# Altium schematic symbol library Daedalus Components Lib Sch.SchLib: 57 symbols
Pins are listed as number, name and electrical type; pins without a type are passive.

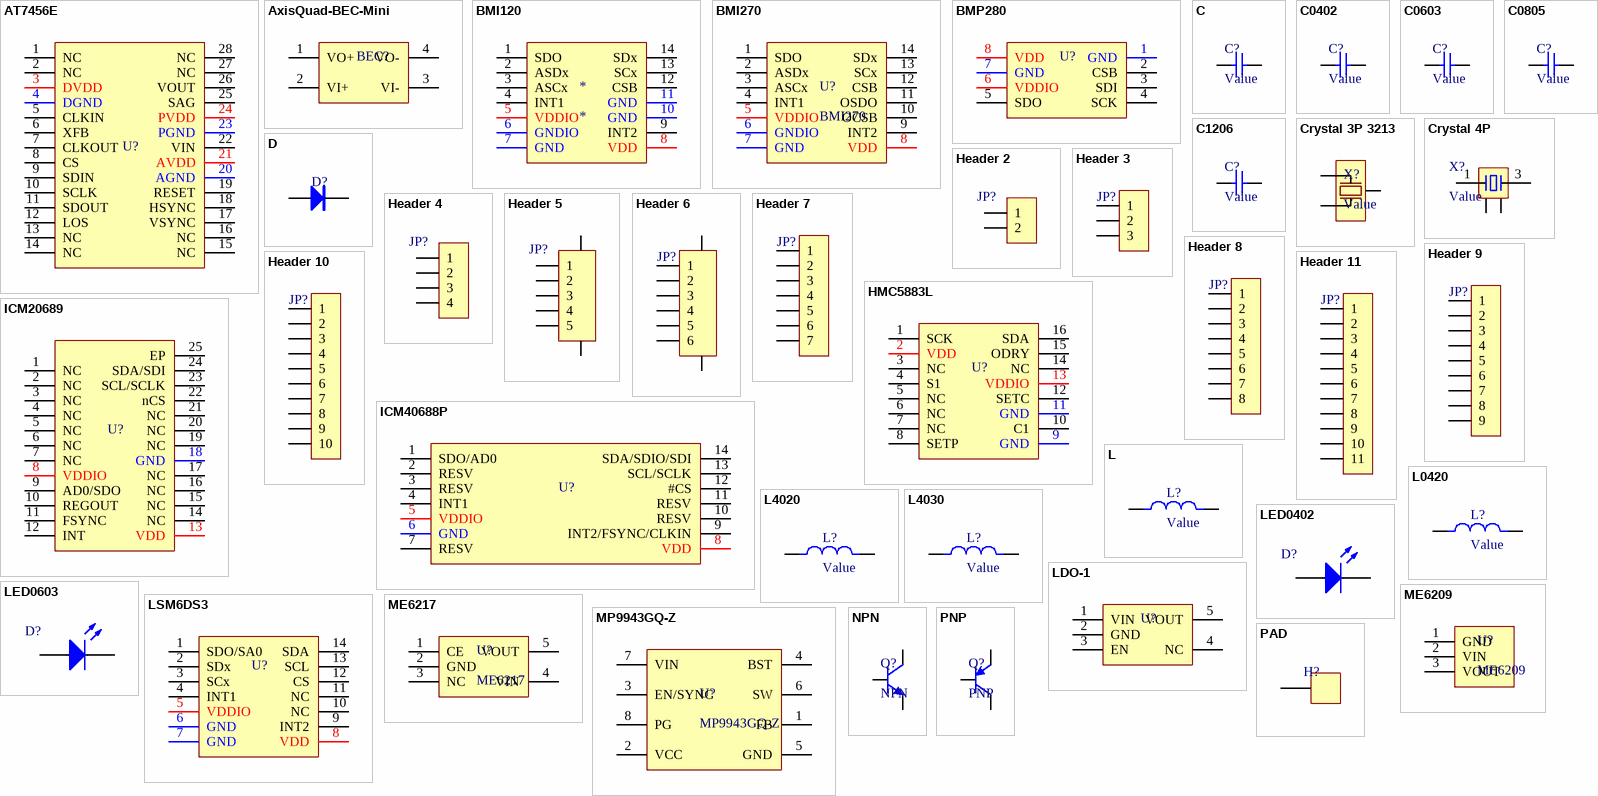
[diagram p0: symbols AT7456E to PNP]

## AT7456E
designator U?
中科微电子 Character Overlay Chip
footprint TSSOP28 (9.8*6.4*1mm)
pins: 1 NC, 2 NC, 3 DVDD, 4 DGND, 5 CLKIN, 6 XFB, 7 CLKOUT, 8 CS, 9 SDIN, 10 SCLK, 11 SDOUT, 12 LOS, 13 NC, 14 NC, 15 NC, 16 NC, 17 VSYNC, 18 HSYNC, 19 RESET, 20 AGND, 21 AVDD, 22 VIN, 23 PGND, 24 PVDD, 25 SAG, 26 VOUT, 27 NC, 28 NC

## AxisQuad-BEC-Mini
designator BEC?
V2 Based on TPS54302, V3 Based on SCT2331
footprint AxisQuad BEC Mini v2 (AxisQuad BEC Based on TPS54302)
footprint AxisQuad BEC Mini v3 (AxisQuad BEC Based on SCT2331)
pins: 1 VO+, 2 VI+, 3 VI-, 4 VO-

## BMI120
designator *
Small, low power inertial measurement unit
footprint LGA-14
footprint LGA-14
pins: 1 SDO, 2 ASDx, 3 ASCx, 4 INT1, 5 VDDIO, 6 GNDIO, 7 GND, 8 VDD, 9 INT2, 10 GND, 11 GND, 12 CSB, 13 SCx, 14 SDx

## BMI270
designator U?
6-axis, smart, low power Inertial Measurement Unit for high-performance applications
footprint LGA-14
pins: 1 SDO, 2 ASDx, 3 ASCx, 4 INT1, 5 VDDIO, 6 GNDIO, 7 GND, 8 VDD, 9 INT2, 10 OCSB, 11 OSDO, 12 CSB, 13 SCx, 14 SDx

## BMP280
designator U?
BOSCH Barometer
footprint LGA-8-BMP280
pins: 1 GND, 2 CSB, 3 SDI, 4 SCK, 5 SDO, 6 VDDIO, 7 GND, 8 VDD

## C
designator C?, comment Value
footprint C1206_NS (贴片MLCC电容-无丝印)
footprint C0402_NS (贴片MLCC电容-无丝印             联系卖家 免费查找封装)
footprint C0603_NS (贴片MLCC电容-无丝印)
footprint C0805_NS (贴片MLCC电容-无丝印)
footprint C_3528 (长3.5mm，宽2.8mm，厚1.9mm            联系卖家 免费查找封装)
pins: 1, 2

## C0402
designator C?, comment Value
Capacitance 0402
footprint C0402_NS (贴片MLCC电容-无丝印             联系卖家 免费查找封装)
pins: 1, 2

## C0603
designator C?, comment Value
Capacitance 0603
footprint C0603_NS (贴片MLCC电容-无丝印)
pins: 1, 2

## C0805
designator C?, comment Value
Capacitance 0805
footprint C0805_NS (贴片MLCC电容-无丝印)
pins: 1, 2

## C1206
designator C?, comment Value
Capacitance 1206
footprint C1206_NS (贴片MLCC电容-无丝印)
pins: 1, 2

## Crystal 3P 3213
designator X?, comment Value
3213 Crystal
footprint OSC-SMD-3
pins: 1 OSC_IN, 2 GND, 3 OSC_OUT

## Crystal 4P
designator X?, comment Value
4脚无源晶振(谐振器）; 联系卖家，免费查找封装: 唯一出售店铺网址https://shop463601444.taobao.com; BOM名称: 4脚无源晶振(谐振器）
footprint XTAL-1612-4P (1.6*1.2*0.35mm（长宽高）)
footprint XTAL-2025-4P (2*2.5*0.55mm(长宽高))
footprint XTAL-3225-4P (3.2*2.5*0.7mm(长宽高))
footprint XTAL-4025-4P (4*2.5*0.7mm(长宽高))
footprint XTAL-5032-4P (5mm*3.2mm*0.8mm(长*宽*高))
footprint XTAL-6035-4P (6mm*3.5mm*1mm(长*宽*高))
footprint XTAL-7050-4P (7mm*5mm*1.3mm(长*宽*高))
footprint XTAL-8045-4P (8mm*4.5mm*1.6mm(长*宽*高))
footprint XTAL-8045-4P-C (8mm*4.5mm*1.8mm(长*宽*高))
pins: 1, 2, 3, 4

## D
designator D?
BOM名称: TVS瞬态抑制二极管; 属性: 30V 600W
footprint SOD-123
pins: 1 A, 2 K

## Header 2
designator JP?, comment CON-2P  (value not drawn)
2P连接器; BOM名称: 2P连接器
footprint SH1.0-WT-2P (SH1.0连接器-卧贴-2P)
pins: 1, 2

## Header 3
designator JP?, comment CON-3P  (value not drawn)
3P连接器; BOM名称: 3P连接器
footprint SH1.0-WT-3P (SH1.0连接器-卧贴-3P)
pins: 1, 2, 3

## Header 4
designator JP?, comment CON-4P  (value not drawn)
4P连接器; BOM名称: 4P连接器
footprint SH1.0-WT-4P (SH1.0连接器-卧贴-4P)
pins: 1, 2, 3, 4

## Header 5
designator JP?, comment CON-5P  (value not drawn)
5P连接器; BOM名称: 5P连接器
footprint SH1.0-WT-5P (SH1.0连接器-卧贴-5P)
pins: 0, 0, 1, 2, 3, 4, 5

## Header 6
designator JP?, comment CON-6P  (value not drawn)
6P连接器; BOM名称: 6P连接器
footprint SH1.0-WT-6P (SH1.0连接器-卧贴-6P)
pins: 0, 0, 1, 2, 3, 4, 5, 6

## Header 7
designator JP?, comment CON-6P  (value not drawn)
7P连接器; BOM名称: 7P连接器
footprint SH1.0-WT-7P (SH1.0连接器-卧贴-7P)
pins: 1, 2, 3, 4, 5, 6, 7

## Header 8
designator JP?, comment CON-8P  (value not drawn)
8P连接器; BOM名称: 8P连接器
footprint SH1.0-WT-8P (SH1.0连接器-卧贴-8P)
pins: 1, 2, 3, 4, 5, 6, 7, 8

## Header 9
designator JP?, comment CON-9P  (value not drawn)
9P连接器; BOM名称: 9P连接器
footprint SH1.0-WT-9P (SH1.0连接器-卧贴-9P)
pins: 1, 2, 3, 4, 5, 6, 7, 8, 9

## Header 10
designator JP?, comment CON-10P  (value not drawn)
10P连接器; BOM名称: 10P连接器
footprint SH1.0-WT-10P (SH1.0连接器-卧贴-10P)
pins: 1, 2, 3, 4, 5, 6, 7, 8, 9, 10

## Header 11
designator JP?, comment CON-11P  (value not drawn)
11P连接器; BOM名称: 11P连接器
footprint SH1.0-WT-11P (SH1.0连接器-卧贴-11P)
pins: 1, 2, 3, 4, 5, 6, 7, 8, 9, 10, 11

## HMC5883L
designator U?
Compass, Pin-Pin with QMC5883L
footprint LGA-16
pins: 1 SCK, 2 VDD, 3 NC, 4 S1, 5 NC, 6 NC, 7 NC, 8 SETP, 9 GND, 10 C1, 11 GND, 12 SETC, 13 VDDIO, 14 NC, 15 ODRY, 16 SDA

## ICM20689
designator U?
TDK Invensense 6-DOF Motion Tracking MEMS
footprint QFN24 4x4 (24脚，长x宽x高：4x4x1mm，脚距：0.5mm)
pins: 1 NC, 2 NC, 3 NC, 4 NC, 5 NC, 6 NC, 7 NC, 8 VDDIO, 9 AD0/SDO, 10 REGOUT, 11 FSYNC, 12 INT, 13 VDD, 14 NC, 15 NC, 16 NC, 17 NC, 18 GND, 19 NC, 20 NC, 21 NC, 22 nCS, 23 SCL/SCLK, 24 SDA/SDI, 25 EP

## ICM40688P
designator U?
TDK Invensense high-performance 6-DOF Motion Tracking MEMS
footprint LGA-14
pins: 1 SDO/AD0, 2 RESV, 3 RESV, 4 INT1, 5 VDDIO, 6 GND, 7 RESV, 8 VDD, 9 INT2/FSYNC/CLKIN, 10 RESV, 11 RESV, 12 #CS, 13 SCL/SCLK, 14 SDA/SDIO/SDI

## L
designator L?, comment Value
footprint IHLP2525
footprint IHLP2020
pins: 1, 2

## L0420
designator L?, comment Value
Inductance 0420
footprint L-SMD-0420 (一体化成型电感)
pins: 1, 2

## L4020
designator L?, comment Value
Inductance 4020
footprint NR4020 (4.0mm*4.0mm*2.0mm(长*宽*高）)
pins: 1, 2

## L4030
designator L?, comment Value
Inductance 4030
footprint NR4030 (4.0mm*4.0mm*3.0mm(长*宽*高）)
pins: 1, 2

## LDO-1
designator U?
HT7833, TPAP2125K, etc.
footprint SOT23-5 (SOT23, 5-Leads, Body 2.9x1.6mm, Pitch 0.95mm, IPC Medium Density                联系卖家 免费查找封装)
pins: 1 VIN, 2 GND, 3 EN, 4 NC, 5 VOUT

## LED0402
designator D?, comment LED  (value not drawn)
发光二极管; 封装库来自淘宝卖家ID：黄晶宝石: 其他店铺购入均为盗版封装库，请立即申请退款，本店现金奖励20~200元
footprint LED0402-B
footprint LED0402-G
footprint LED0402-R
footprint LED0402-W
pins: 1 A, 2 K

## LED0603
designator D?, comment LED  (value not drawn)
发光二极管; 封装库来自淘宝卖家ID：黄晶宝石: 其他店铺购入均为盗版封装库，请立即申请退款，本店现金奖励20~200元
footprint LED0603_B (蓝色0603LED)
footprint LED0603_G (绿色0603LED)
footprint LED0603_R (红色0603LED)
footprint LED0603_Y (黄色0603LED)
footprint LED0603_W (白色0603LED)
pins: 1 A, 2 K

## LSM6DS3
designator U?
ST 6-DOF iNEMO Inertial Module
footprint LGA-14
pins: 1 SDO/SA0, 2 SDx, 3 SCx, 4 INT1, 5 VDDIO, 6 GND, 7 GND, 8 VDD, 9 INT2, 10 NC, 11 NC, 12 CS, 13 SCL, 14 SDA

## ME6209
designator U?
footprint SOT89-3
pins: 1 GND, 2 VIN, 3 VOUT

## ME6217
designator U?
footprint SOT23-5 (SOT23, 5-Leads, Body 2.9x1.6mm, Pitch 0.95mm, IPC Medium Density                联系卖家 免费查找封装)
pins: 1 CE, 2 GND, 3 NC, 4 VIN, 5 VOUT

## MP9943GQ-Z
designator U?
High Efficiency 3A Peak, 36V, Synchronous Step Down Converter With Power Good
footprint DFN-8
pins: 1 FB, 2 VCC, 3 EN/SYNC, 4 BST, 5 GND, 6 SW, 7 VIN, 8 PG

## NPN
designator Q?
NPN三极管
footprint SOT23-3 (SOT23, 3-Leads, Body 2.9x1.3mm, Pitch 0.95mm, Lead Span 2.4mm, IPC High Density)
pins: 1 B, 2 E, 3 C

## PAD
designator H?
Pads
footprint Pad 1
footprint Pad 2
footprint Pad 3
footprint Pad 4
footprint Pad 5
pins: 1

## PNP
designator Q?
PNP三极管
footprint SOT23-3 (SOT23, 3-Leads, Body 2.9x1.3mm, Pitch 0.95mm, Lead Span 2.4mm, IPC High Density)
pins: 1 A, 2 B, 3 C

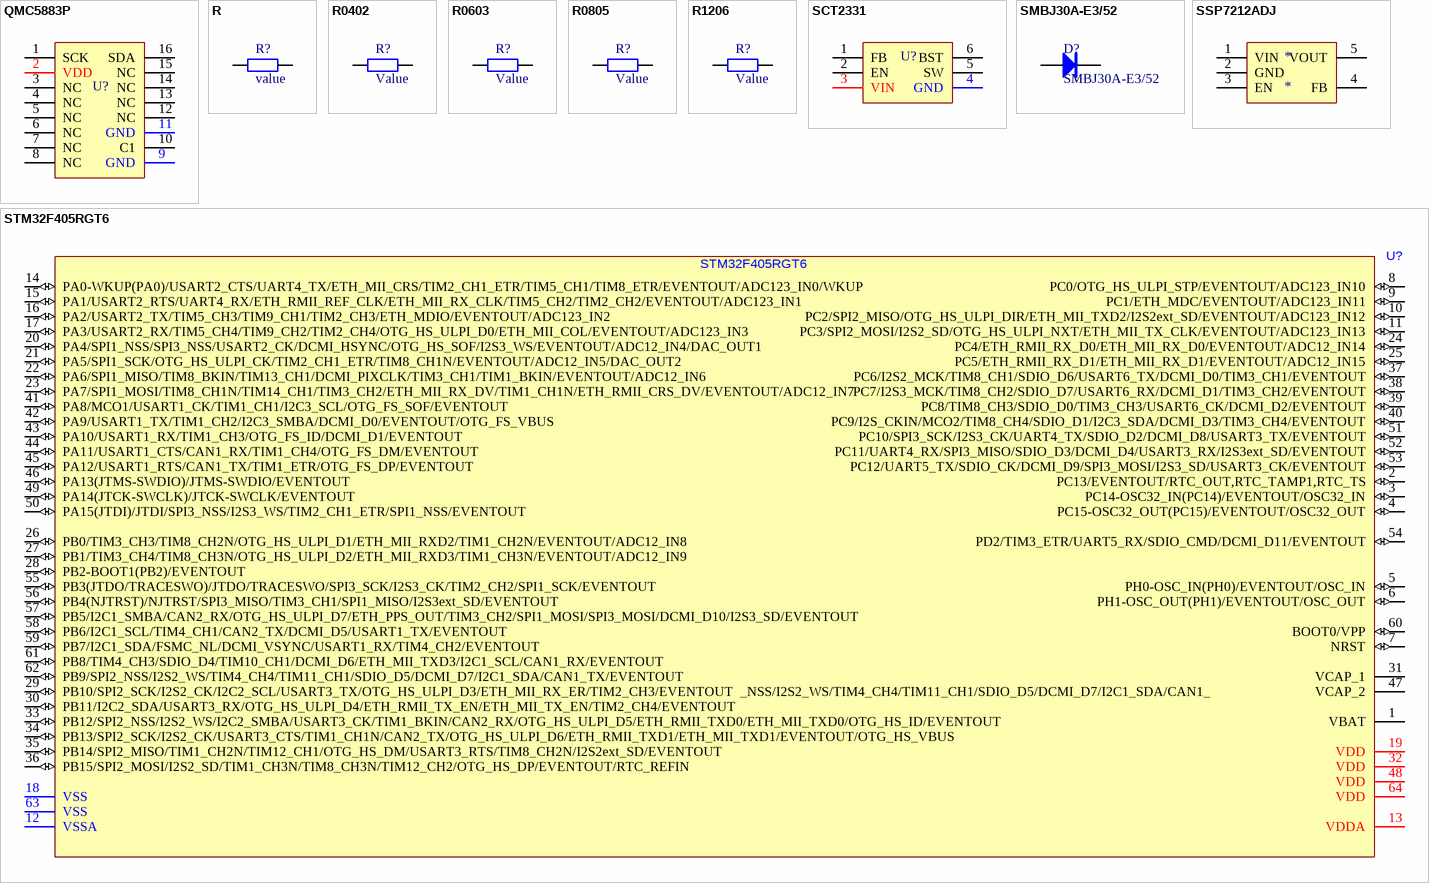
[diagram p1: symbols QMC5883P to STM32F405RGT6]

## QMC5883P
designator U?
1.5k Rate Compass(HMC5883L, QMC5883L)
footprint LGA-16
pins: 1 SCK, 2 VDD, 3 NC, 4 NC, 5 NC, 6 NC, 7 NC, 8 NC, 9 GND, 10 C1, 11 GND, 12 NC, 13 NC, 14 NC, 15 NC, 16 SDA

## R
designator R?, comment value
pins: 1, 2

## R0402
designator R?, comment Value
Resistance 0402
footprint R0402_NS (1/16W贴片电阻-无丝印)
pins: 1, 2

## R0603
designator R?, comment Value
Resistance 0603
footprint R0603_NS (1/10W贴片电阻-无丝印)
pins: 1, 2

## R0805
designator R?, comment Value
Resistance 0805
footprint R0805_NS (1/8W贴片电阻-无丝印)
pins: 1, 2

## R1206
designator R?, comment Value
Resistance 1206
footprint R1206_NS (1/4W贴片电阻-无丝印)
pins: 1, 2

## SCT2331
designator U?
3.8V-32V Vin, 3A Synchronous Step-down DCDC Converter with EMI Reduction
footprint SOT23-6 (SOT-23, 6-Leads, Body 2.90x1.60mm, Pitch 0.95mm, IPC High Density)
pins: 1 FB, 2 EN, 3 VIN, 4 GND, 5 SW, 6 BST

## SMBJ30A-E3/52
designator D?
30V 600W 瞬态抑制二极管(TVS); BOM名称: TVS瞬态抑制二极管; 属性: 30V 600W
footprint SMB (4.7*3.9*2.2mm)
pins: 1 A, 2 K

## SSP7212ADJ
designator *
footprint SOT23-5 (SOT23, 5-Leads, Body 2.9x1.6mm, Pitch 0.95mm, IPC Medium Density                联系卖家 免费查找封装)
pins: 1 VIN, 2 GND, 3 EN, 4 FB, 5 VOUT

## STM32F405RGT6
designator U?
168MHz LQFP64 MCU
footprint STM-LQFP64_L (Thin QFP, 64-Leads, Body 10x10mm, Pitch 0.5mm, IPC High Density)
pins: 1 VBAT (power), 2 PC13/EVENTOUT/RTC_OUT,RTC_TAMP1,RTC_TS (io), 3 PC14-OSC32_IN(PC14)/EVENTOUT/OSC32_IN (io), 4 PC15-OSC32_OUT(PC15)/EVENTOUT/OSC32_OUT (io), 5 PH0-OSC_IN(PH0)/EVENTOUT/OSC_IN (io), 6 PH1-OSC_OUT(PH1)/EVENTOUT/OSC_OUT (io), 7 NRST (io), 8 PC0/OTG_HS_ULPI_STP/EVENTOUT/ADC123_IN10 (io), 9 PC1/ETH_MDC/EVENTOUT/ADC123_IN11 (io), 10 PC2/SPI2_MISO/OTG_HS_ULPI_DIR/ETH_MII_TXD2/I2S2ext_SD/EVENTOUT/ADC123_IN12 (io), 11 PC3/SPI2_MOSI/I2S2_SD/OTG_HS_ULPI_NXT/ETH_MII_TX_CLK/EVENTOUT/ADC123_IN13 (io), 12 VSSA (power), 13 VDDA (power), 14 PA0-WKUP(PA0)/USART2_CTS/UART4_TX/ETH_MII_CRS/TIM2_CH1_ETR/TIM5_CH1/TIM8_ETR/EVENTOUT/ADC123_IN0/WKUP (io), 15 PA1/USART2_RTS/UART4_RX/ETH_RMII_REF_CLK/ETH_MII_RX_CLK/TIM5_CH2/TIM2_CH2/EVENTOUT/ADC123_IN1 (io), 16 PA2/USART2_TX/TIM5_CH3/TIM9_CH1/TIM2_CH3/ETH_MDIO/EVENTOUT/ADC123_IN2 (io), 17 PA3/USART2_RX/TIM5_CH4/TIM9_CH2/TIM2_CH4/OTG_HS_ULPI_D0/ETH_MII_COL/EVENTOUT/ADC123_IN3 (io), 18 VSS (power), 19 VDD (power), 20 PA4/SPI1_NSS/SPI3_NSS/USART2_CK/DCMI_HSYNC/OTG_HS_SOF/I2S3_WS/EVENTOUT/ADC12_IN4/DAC_OUT1 (io), 21 PA5/SPI1_SCK/OTG_HS_ULPI_CK/TIM2_CH1_ETR/TIM8_CH1N/EVENTOUT/ADC12_IN5/DAC_OUT2 (io), 22 PA6/SPI1_MISO/TIM8_BKIN/TIM13_CH1/DCMI_PIXCLK/TIM3_CH1/TIM1_BKIN/EVENTOUT/ADC12_IN6 (io), 23 PA7/SPI1_MOSI/TIM8_CH1N/TIM14_CH1/TIM3_CH2/ETH_MII_RX_DV/TIM1_CH1N/ETH_RMII_CRS_DV/EVENTOUT/ADC12_IN7 (io), 24 PC4/ETH_RMII_RX_D0/ETH_MII_RX_D0/EVENTOUT/ADC12_IN14 (io), 25 PC5/ETH_RMII_RX_D1/ETH_MII_RX_D1/EVENTOUT/ADC12_IN15 (io), 26 PB0/TIM3_CH3/TIM8_CH2N/OTG_HS_ULPI_D1/ETH_MII_RXD2/TIM1_CH2N/EVENTOUT/ADC12_IN8 (io), 27 PB1/TIM3_CH4/TIM8_CH3N/OTG_HS_ULPI_D2/ETH_MII_RXD3/TIM1_CH3N/EVENTOUT/ADC12_IN9 (io), 28 PB2-BOOT1(PB2)/EVENTOUT (io), 29 PB10/SPI2_SCK/I2S2_CK/I2C2_SCL/USART3_TX/OTG_HS_ULPI_D3/ETH_MII_RX_ER/TIM2_CH3/EVENTOUT  _NSS/I2S2_WS/TIM4_CH4/TIM11_CH1/SDIO_D5/DCMI_D7/I2C1_SDA/CAN1_ (io), 30 PB11/I2C2_SDA/USART3_RX/OTG_HS_ULPI_D4/ETH_RMII_TX_EN/ETH_MII_TX_EN/TIM2_CH4/EVENTOUT (io), 31 VCAP_1 (power), 32 VDD (power), 33 PB12/SPI2_NSS/I2S2_WS/I2C2_SMBA/USART3_CK/TIM1_BKIN/CAN2_RX/OTG_HS_ULPI_D5/ETH_RMII_TXD0/ETH_MII_TXD0/OTG_HS_ID/EVENTOUT (io), 34 PB13/SPI2_SCK/I2S2_CK/USART3_CTS/TIM1_CH1N/CAN2_TX/OTG_HS_ULPI_D6/ETH_RMII_TXD1/ETH_MII_TXD1/EVENTOUT/OTG_HS_VBUS (io), 35 PB14/SPI2_MISO/TIM1_CH2N/TIM12_CH1/OTG_HS_DM/USART3_RTS/TIM8_CH2N/I2S2ext_SD/EVENTOUT (io), 36 PB15/SPI2_MOSI/I2S2_SD/TIM1_CH3N/TIM8_CH3N/TIM12_CH2/OTG_HS_DP/EVENTOUT/RTC_REFIN (io), 37 PC6/I2S2_MCK/TIM8_CH1/SDIO_D6/USART6_TX/DCMI_D0/TIM3_CH1/EVENTOUT (io), 38 PC7/I2S3_MCK/TIM8_CH2/SDIO_D7/USART6_RX/DCMI_D1/TIM3_CH2/EVENTOUT (io), 39 PC8/TIM8_CH3/SDIO_D0/TIM3_CH3/USART6_CK/DCMI_D2/EVENTOUT (io), 40 PC9/I2S_CKIN/MCO2/TIM8_CH4/SDIO_D1/I2C3_SDA/DCMI_D3/TIM3_CH4/EVENTOUT (io), 41 PA8/MCO1/USART1_CK/TIM1_CH1/I2C3_SCL/OTG_FS_SOF/EVENTOUT (io), 42 PA9/USART1_TX/TIM1_CH2/I2C3_SMBA/DCMI_D0/EVENTOUT/OTG_FS_VBUS (io), 43 PA10/USART1_RX/TIM1_CH3/OTG_FS_ID/DCMI_D1/EVENTOUT (io), 44 PA11/USART1_CTS/CAN1_RX/TIM1_CH4/OTG_FS_DM/EVENTOUT (io), 45 PA12/USART1_RTS/CAN1_TX/TIM1_ETR/OTG_FS_DP/EVENTOUT (io), 46 PA13(JTMS-SWDIO)/JTMS-SWDIO/EVENTOUT (io), 47 VCAP_2 (power), 48 VDD (power), 49 PA14(JTCK-SWCLK)/JTCK-SWCLK/EVENTOUT (io), 50 PA15(JTDI)/JTDI/SPI3_NSS/I2S3_WS/TIM2_CH1_ETR/SPI1_NSS/EVENTOUT (io), 51 PC10/SPI3_SCK/I2S3_CK/UART4_TX/SDIO_D2/DCMI_D8/USART3_TX/EVENTOUT (io), 52 PC11/UART4_RX/SPI3_MISO/SDIO_D3/DCMI_D4/USART3_RX/I2S3ext_SD/EVENTOUT (io), 53 PC12/UART5_TX/SDIO_CK/DCMI_D9/SPI3_MOSI/I2S3_SD/USART3_CK/EVENTOUT (io), 54 PD2/TIM3_ETR/UART5_RX/SDIO_CMD/DCMI_D11/EVENTOUT (io), 55 PB3(JTDO/TRACESWO)/JTDO/TRACESWO/SPI3_SCK/I2S3_CK/TIM2_CH2/SPI1_SCK/EVENTOUT (io), 56 PB4(NJTRST)/NJTRST/SPI3_MISO/TIM3_CH1/SPI1_MISO/I2S3ext_SD/EVENTOUT (io), 57 PB5/I2C1_SMBA/CAN2_RX/OTG_HS_ULPI_D7/ETH_PPS_OUT/TIM3_CH2/SPI1_MOSI/SPI3_MOSI/DCMI_D10/I2S3_SD/EVENTOUT (io), 58 PB6/I2C1_SCL/TIM4_CH1/CAN2_TX/DCMI_D5/USART1_TX/EVENTOUT (io), 59 PB7/I2C1_SDA/FSMC_NL/DCMI_VSYNC/USART1_RX/TIM4_CH2/EVENTOUT (io), 60 BOOT0/VPP (io), 61 PB8/TIM4_CH3/SDIO_D4/TIM10_CH1/DCMI_D6/ETH_MII_TXD3/I2C1_SCL/CAN1_RX/EVENTOUT (io), 62 PB9/SPI2_NSS/I2S2_WS/TIM4_CH4/TIM11_CH1/SDIO_D5/DCMI_D7/I2C1_SDA/CAN1_TX/EVENTOUT (io), 63 VSS (power), 64 VDD (power)

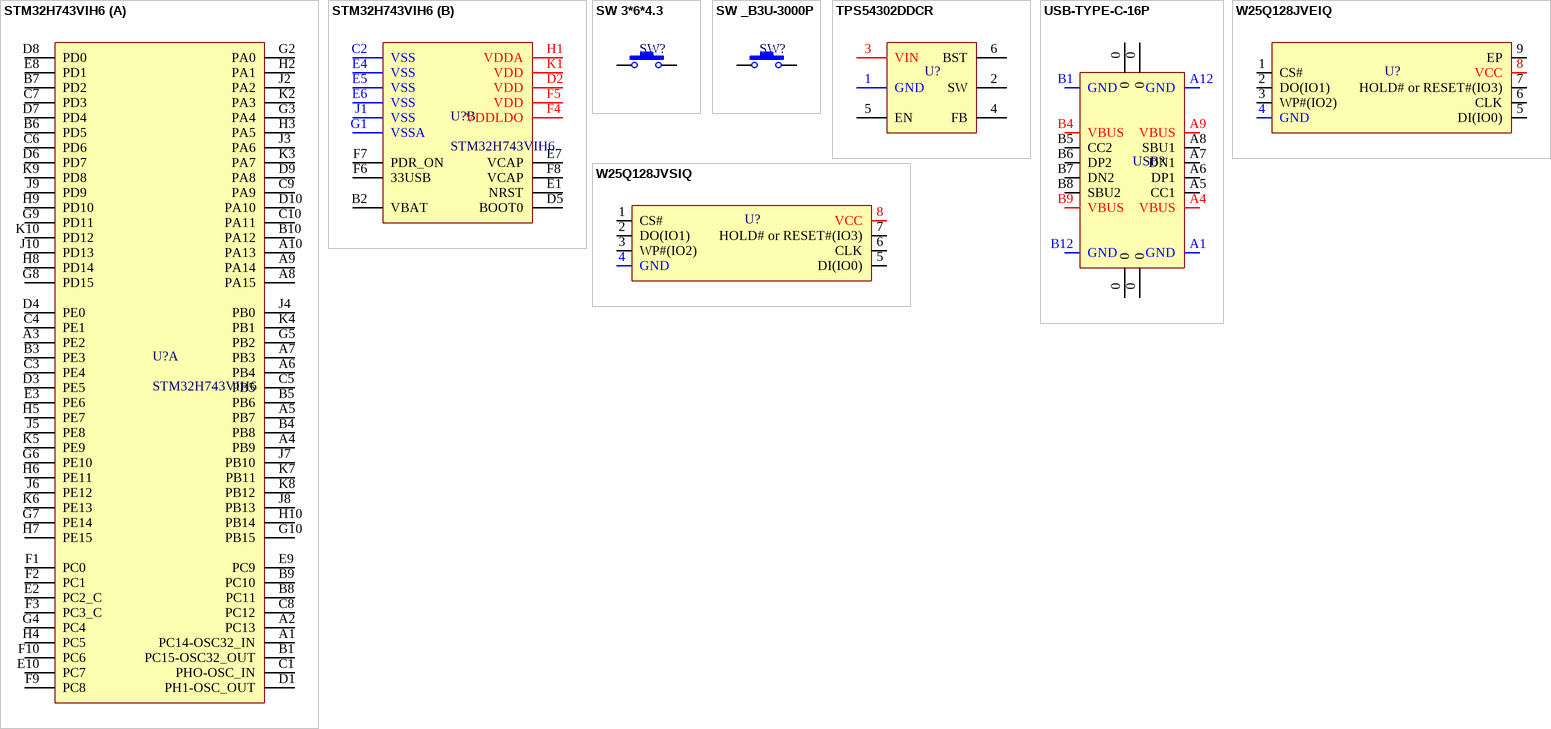
[diagram p2: symbols STM32H743VIH6 to W25Q128JVSIQ]

## STM32H743VIH6
designator U?
480MHz BGA100 MCU
footprint TFBGA100
part A pins: A1 PC14-OSC32_IN, A2 PC13, A3 PE2, A4 PB9, A5 PB7, A6 PB4, A7 PB3, A8 PA15, A9 PA14, A10 PA13, B1 PC15-OSC32_OUT, B3 PE3, B4 PB8, B5 PB6, B6 PD5, B7 PD2, B8 PC11, B9 PC10, B10 PA12, C1 PHO-OSC_IN, C3 PE4, C4 PE1, C5 PB5, C6 PD6, C7 PD3, C8 PC12, C9 PA9, C10 PA11, D1 PH1-OSC_OUT, D3 PE5, D4 PE0, D6 PD7, D7 PD4, D8 PD0, D9 PA8, D10 PA10, E2 PC2_C, E3 PE6, E8 PD1, E9 PC9, E10 PC7, F1 PC0, F2 PC1, F3 PC3_C, F9 PC8, F10 PC6, G2 PA0, G3 PA4, G4 PC4, G5 PB2, G6 PE10, G7 PE14, G8 PD15, G9 PD11, G10 PB15, H2 PA1, H3 PA5, H4 PC5, H5 PE7, H6 PE11, H7 PE15, H8 PD14, H9 PD10, H10 PB14, J2 PA2, J3 PA6, J4 PB0, J5 PE8, J6 PE12, J7 PB10, J8 PB13, J9 PD9, J10 PD13, K2 PA3, K3 PA7, K4 PB1, K5 PE9, K6 PE13, K7 PB11, K8 PB12, K9 PD8, K10 PD12
part B pins: B2 VBAT, C2 VSS, D2 VDD, D5 BOOT0, E1 NRST, E4 VSS, E5 VSS, E6 VSS, E7 VCAP, F4 VDDLDO, F5 VDD, F6 33USB, F7 PDR_ON, F8 VCAP, G1 VSSA, H1 VDDA, J1 VSS, K1 VDD

## SW 3*6*4.3
designator SW?
3*6*4.3 Switch
footprint SW 3*6*4.3-S-W (侧立贴片3*6*4.3)
pins: 1, 2

## SW _B3U-3000P
designator SW?
B3U-3000P
footprint B3U-3000P
footprint B3U-3000PM-B
pins: 1, 2

## TPS54302DDCR
designator U?
4.5-V to 28-V Input, 3-A Output,EMI Friendly Synchronous Step-Down Converter
footprint SOT23-6 (SOT-23, 6-Leads, Body 2.90x1.60mm, Pitch 0.95mm, IPC High Density)
pins: 1 GND, 2 SW, 3 VIN, 4 FB, 5 EN, 6 BST

## USB-TYPE-C-16P
designator USB?
TYPE-C USB Male Interface DIP
footprint USB-C-SMD_16P (USB TYPE C Male Interface)
pins: 0, 0, 0, 0, A1 GND, A4 VBUS, A5 CC1, A6 DP1, A7 DN1, A8 SBU1, A9 VBUS, A12 GND, B1 GND, B4 VBUS, B5 CC2, B6 DP2, B7 DN2, B8 SBU2, B9 VBUS, B12 GND

## W25Q128JVEIQ
designator U?
16M SPI Flash WSON-8
footprint WSON-8
pins: 1 CS#, 2 DO(IO1), 3 WP#(IO2), 4 GND, 5 DI(IO0), 6 CLK, 7 HOLD# or RESET#(IO3), 8 VCC, 9 EP

## W25Q128JVSIQ
designator U?
16M SPI Flash SOIC-8
footprint SOIC-8
pins: 1 CS#, 2 DO(IO1), 3 WP#(IO2), 4 GND, 5 DI(IO0), 6 CLK, 7 HOLD# or RESET#(IO3), 8 VCC